# EAGLE library part LT6108-2 (library ic-LT)
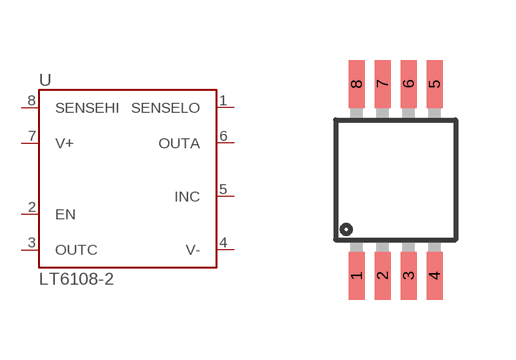
[diagram p3: symbol with the pads of MSOP8; footprint MSOP8]

Designator prefix U

## LT6108-2  [MSOP8]
1  SENSELO
2  EN
3  OUTC
4  V-
5  INC
6  OUTA
7  V+
8  SENSEHI

## Footprint MSOP8 (pad centres in mm)
smd 0.4 x 1.2: 1 -0.975,-2.4; 2 -0.325,-2.4; 3 0.325,-2.4; 4 0.975,-2.4; 5 0.975,2.4; 6 0.325,2.4; 7 -0.325,2.4; 8 -0.975,2.4